# Altium schematic symbol library XR-2206.SchLib: 3 symbols
Pins are listed as number, name and electrical type; pins without a type are passive.

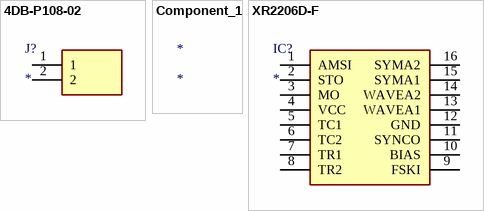
[diagram p0: symbols 4DB-P108-02 to XR2206D-F]

## 4DB-P108-02
designator J?
Connector; Manufacturer_Name: TE Connectivity; Manufacturer_Part_Number: 4DB-P108-02; Datasheet Link: https://www.te.com/commerce/DocumentDelivery/DDEController?Action=srchrtrv&DocNm=1-1773458-2_BARRIER_STRIPS_QRG&DocType=Data%20Sheet&DocLang=English&PartCntxt=2-1437667-4&DocFormat=pdf; Height: 13.462mm; Mouser Part Number: 571-214376674; Mouser Price/Stock: https://www.mouser.co.uk/ProductDetail/TE-Connectivity/4DB-P108-02?qs=JZD3Rbs9XzmzUbn854Piuw%3D%3D; Arrow Part Number: 4DB-P108-02; Arrow Price/Stock: https://www.arrow.com/en/products/4db-p108-02/te-connectivity?region=nac
footprint 4DBP10802
pins: 1, 2

## Component_1
designator *

## XR2206D-F
designator IC?
Integrated Circuit; Manufacturer_Name: EXAR; Manufacturer_Part_Number: XR2206D-F; Description: EXAR XR2206D-F; Datasheet Link: https://g.componentsearchengine.com/Datasheets/1/XR2206D-F.pdf; Height: 2.65mm; Mouser Part Number: 701-XR2206D-F; Mouser Price/Stock: https://www.mouser.com/Search/Refine.aspx?Keyword=701-XR2206D-F
footprint SOIC127P1032X265-16N
pins: 1 AMSI, 2 STO, 3 MO, 4 VCC, 5 TC1, 6 TC2, 7 TR1, 8 TR2, 9 FSKI, 10 BIAS, 11 SYNCO, 12 GND, 13 WAVEA1, 14 WAVEA2, 15 SYMA1, 16 SYMA2